# Altium footprint library msp_Passive.PcbLib: 18 footprints (part 1 of 2)
Each footprint in its own frame and in the unit in brackets; x right, y up, seen from the top. Pads: shape width x height; smd on the part's side, far side on the other; paste and mask are expansions set on the pad; w line width, h text height; cw(c..) or ccw(c..) is an arc to the next point about the centre after c.
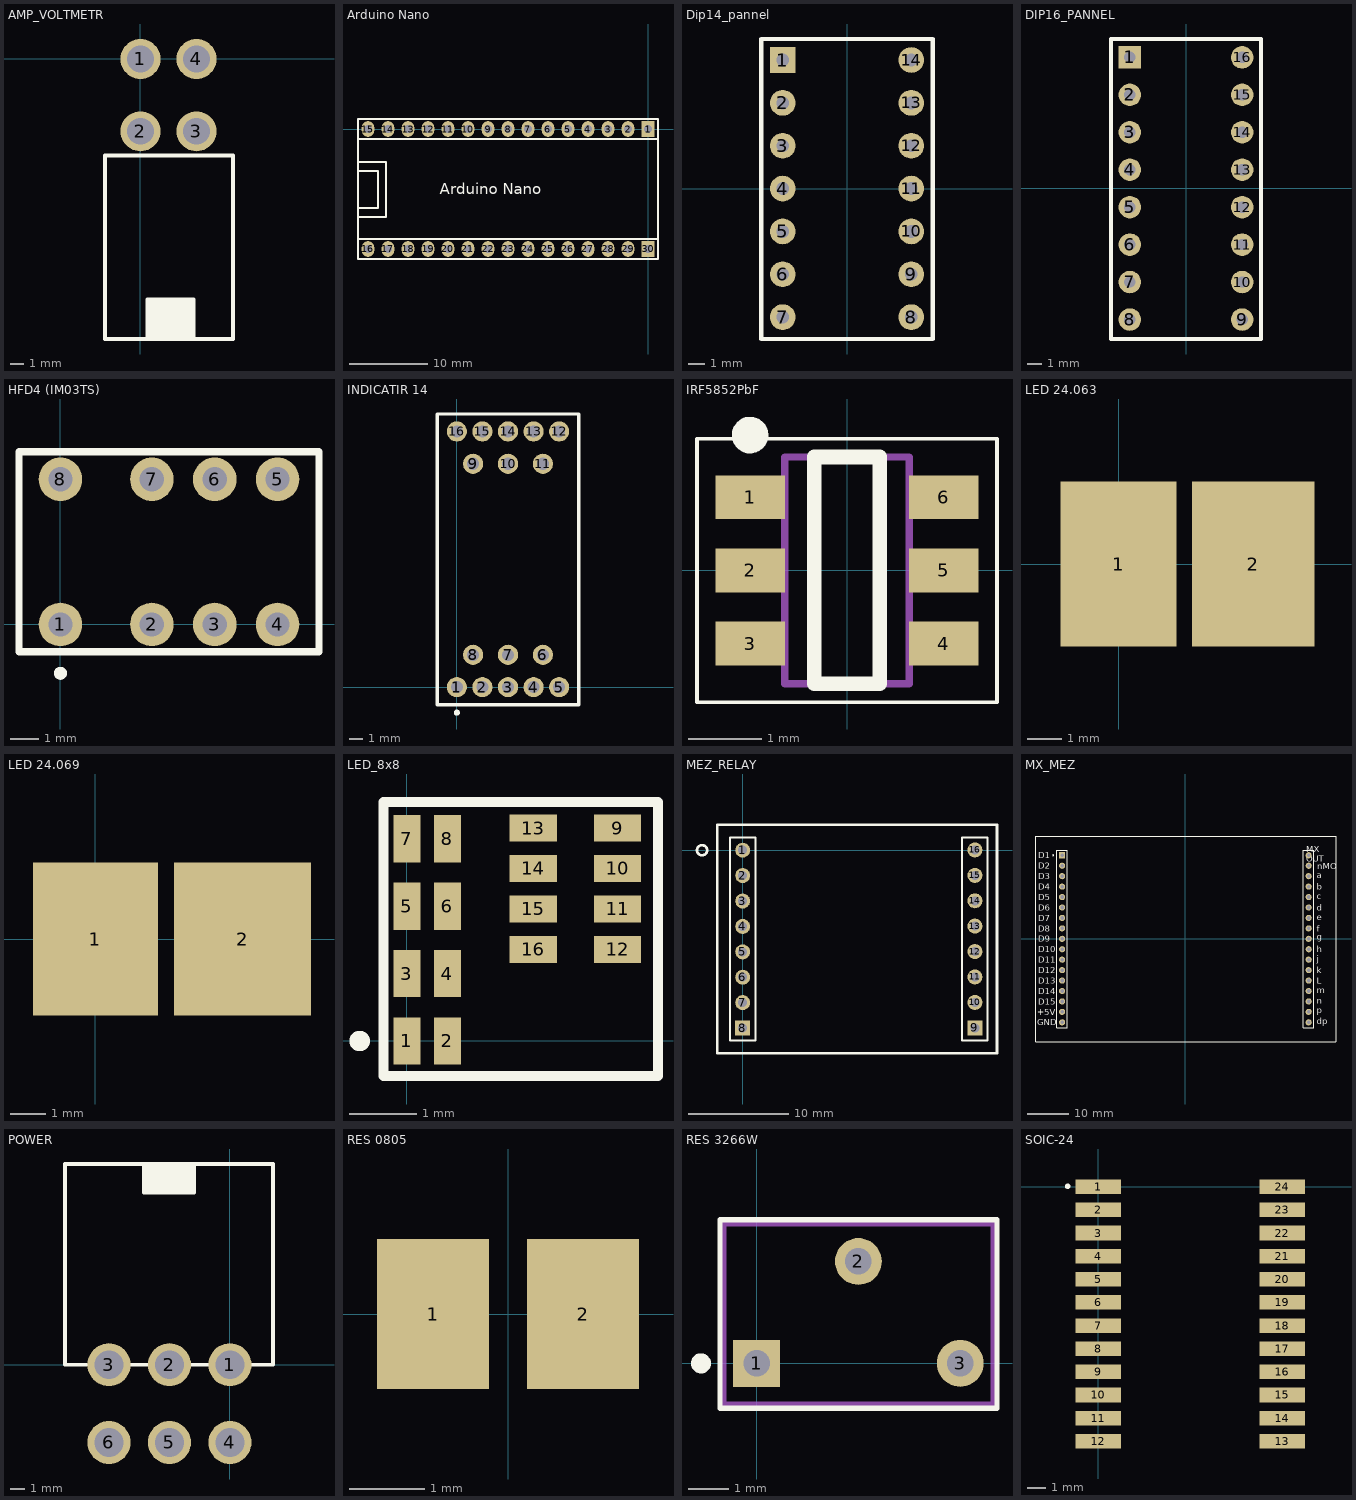
[diagram p0: the footprints below, top view; thin cyan lines are the x and y axes]

## AMP_VOLTMETR [mm]
pads (4):
  round 3 hole 2: 1(0,0) 2(0,-5.423) 3(4.2,-5.423) 4(4.2,0)
Top Overlay:
  rectangle: 0.5,-21 4,-18
  lines w0.254: 0.5,-21 0.5,-18 4,-18 4,-21
  lines w0.3: -2.662,-21 6.938,-21 6.938,-7.25 -2.662,-7.25 -2.662,-21

## Arduino Nano [mm]
pads (30):
  rect 1.6x2 hole 1: 1(0,0) 30(0,-15.24)
  oval 1.6x2 hole 1: 2(-2.54,0) 3(-5.08,0) 4(-7.62,0) 5(-10.16,0) 6(-12.7,0) 7(-15.24,0) 8(-17.78,0) 9(-20.32,0) 10(-22.86,0) 11(-25.4,0) 12(-27.94,0) 13(-30.48,0) 14(-33.02,0) 15(-35.56,0) 16(-35.56,-15.24) 17(-33.02,-15.24) 18(-30.48,-15.24) 19(-27.94,-15.24) 20(-25.4,-15.24) 21(-22.86,-15.24) 22(-20.32,-15.24) 23(-17.78,-15.24) 24(-15.24,-15.24) 25(-12.7,-15.24) 26(-10.16,-15.24) 27(-7.62,-15.24) 28(-5.08,-15.24) 29(-2.54,-15.24)
Top Overlay:
  lines w0.2: -36.83,-13.97 1.27,-13.97 ; -36.83,-11.557 -36.83,-11.43 ; -36.83,-11.176 -33.274,-11.176 -33.274,-4.191 -36.83,-4.191 ; -36.83,-10.033 -34.29,-10.033 -34.29,-5.334 -36.83,-5.334 ; -36.83,-1.27 1.27,-1.27 ; -36.83,-16.51 1.27,-16.51 1.27,1.27 -36.83,1.27 -36.83,-16.51
  text "Arduino Nano" at -26.416,-8.306 h1.4

## Dip14_pannel [mil]
pads (14):
  rect 60x60 hole 30: 1(-150,300)
  round 60 hole 30: 2(-150,200) 3(-150,100) 4(-150,0) 5(-150,-100) 6(-150,-200) 7(-150,-300) 8(150,-300) 9(150,-200) 10(150,-100) 11(150,0) 12(150,100) 13(150,200) 14(150,300)
Top Overlay:
  lines w10: -200,-351 -200,349 200,349 200,-351 -200,-351

## DIP16_PANNEL [mil]
pads (16):
  rect 60x60 hole 30: 1(-150,350)
  round 60 hole 30: 2(-150,250) 3(-150,150) 4(-150,50) 5(-150,-50) 6(-150,-150) 7(-150,-250) 8(-150,-350) 9(150,-350) 10(150,-250) 11(150,-150) 12(150,-50) 13(150,50) 14(150,150) 15(150,250) 16(150,350)
Top Overlay:
  lines w10: -200,-402 200,-402 200,399 -200,399 -200,-402

## HFD4 (IM03TS) [mil]
pads (8):
  round 60 hole 33.46: 1(0,0) 2(125.98,0) 3(212.6,0) 4(299.21,0) 5(299.21,200) 6(212.6,200) 7(125.98,200) 8(0,200)
Top Overlay:
  circle w10: c0,-67.32 r3.94
  lines w10: -57.09,-37.8 356.3,-37.8 356.3,237.8 -57.09,237.8 -57.09,-37.8

## INDICATIR 14 [mm] "24.064"
pads (16):
  round 1.5 hole 0.9: 1(0,0) 2(1.9,0) 3(3.8,0) 4(5.7,0) 5(7.6,0) 6(6.4,2.4) 7(3.8,2.4) 8(1.2,2.4) 9(1.2,16.6) 10(3.8,16.6) 11(6.4,16.6) 12(7.6,19) 13(5.7,19) 14(3.8,19) 15(1.9,19) 16(0,19)
Top Overlay:
  circle w0.254: c0,-1.9 r0.1
  lines w0.254: -1.45,-1.3 -1.45,20.3 9.05,20.3 9.05,-1.3 -1.45,-1.3

## IRF5852PbF [mm] "TSOP, 6-Leads, Body 3,00x1,50mm, Pitch 1,00mm, IPC Medium Density"
height 1.1
pads (6):
  rect 0.95x0.6 smd: 1(-1.325,1) 2(-1.325,0) 3(-1.325,-1) 4(1.325,-1) 5(1.325,0) 6(1.325,1)
Top Overlay:
  circle w0.25: c-1.325,1.85 r0.125
  lines w0.05: -2.05,-1.8 2.05,-1.8 2.05,1.8 -2.05,1.8 -2.05,-1.8
  lines w0.2: -0.45,-1.55 0.45,-1.55 0.45,1.55 -0.45,1.55 -0.45,-1.55
Mechanical 13:
  lines w0.1: -0.85,-1.55 0.85,-1.55 0.85,1.55 -0.85,1.55 -0.85,-1.55
3D body: height 1.1, standoff 0.01, extent -0.85,-1.55 0.85,1.55

## LED 24.063 [mm]
pads (2):
  rect 3.4x4.85 smd: 1(0,0)
  rect 3.6x4.85 smd: 2(3.962,0)

## LED 24.069 [mm]
pads (2):
  rect 3.55x4.36 smd: 1(0,0)
  rect 3.9x4.36 smd: 2(4.191,0)

## LED_8x8 [mm] "24.067"
pads (16):
  rect 0.4x0.7 smd: 1(0,0) 2(0.6,0) 3(0,1) 4(0.6,1) 5(0,2) 6(0.6,2) 7(0,3) 8(0.6,3)
  rect 0.7x0.4 smd: 9(3.125,3.159) 10(3.125,2.559) 11(3.125,1.959) 12(3.125,1.359) 13(1.875,3.159) 14(1.875,2.559) 15(1.875,1.959) 16(1.875,1.359)
Top Overlay:
  circle w0.254: c-0.7,0 r0.025
  lines w0.15: -0.345,-0.522 3.725,-0.522 3.725,3.548 -0.345,3.548 -0.345,-0.522

## MEZ_RELAY [mm] "мезонин реле"
height 14.986
pads (16):
  round 1.5 hole 0.9: 1(0,0) 2(0,-2.54) 3(0,-5.08) 4(0,-7.62) 5(0,-10.16) 6(0,-12.7) 7(0,-15.24) 10(23.216,-15.215) 11(23.216,-12.675) 12(23.216,-10.135) 13(23.216,-7.595) 14(23.216,-5.055) 15(23.216,-2.515) 16(23.216,0.025)
  rect 1.5x1.5 hole 0.9: 8(0,-17.78) 9(23.216,-17.755)
Top Overlay:
  circle w0.254: c-4.064,0 r0.508
  lines w0.2: -1.27,-19.05 1.27,-19.05 1.27,1.27 -1.27,1.27 -1.27,-19.05 ; 21.946,-19.025 21.946,1.295 24.486,1.295 24.486,-19.025 21.946,-19.025
  lines w0.254: -2.54,2.54 -2.54,-20.32 25.425,-20.32 25.425,2.565 -2.515,2.565

## MX_MEZ [mm]
pads (34):
  rect 1.5x1.5 hole 0.9: 1(-30,20.32)
  round 1.5 hole 0.9: 2(-30,17.78) 3(-30,15.24) 4(-30,12.7) 5(-30,10.16) 6(-30,7.62) 7(-30,5.08) 8(-30,2.54) 9(-30,0) 10(-30,-2.54) 11(-30,-5.08) 12(-30,-7.62) 13(-30,-10.16) 14(-30,-12.7) 15(-30,-15.24) 16(-30,-17.78) 17(-30,-20.32) 18(30,-20.32) 19(30,-17.78) 20(30,-15.24) 21(30,-12.7) 22(30,-10.16) 23(30,-7.62) 24(30,-5.08) 25(30,-2.54) 26(30,0) 27(30,2.54) 28(30,5.08) 29(30,7.62) 30(30,10.16) 31(30,12.7) 32(30,15.24) 33(30,17.78) 34(30,20.32)
Top Overlay:
  circle w0.3: c-32.187,20.344 r0.1
  lines w0.2: -31.27,-21.59 -28.73,-21.59 -28.73,21.59 -31.27,21.59 -31.27,-19.685 -31.27,-21.59 ; 28.73,-21.59 31.27,-21.59 31.27,21.59 28.73,21.59 28.73,-19.685 28.73,-21.59
  lines w0.254: -36.353,-25.046 36.647,-25.046 36.647,24.954 -36.353,24.954 -36.353,-25.046
  text "MX / OUT" at 29.452,18.72 h1.52
  text "nMO" at 32.026,16.933 h1.52
  text "D15" at -35.797,-16.002 h1.52
  text "D14" at -35.797,-13.462 h1.52
  text "D13" at -35.797,-10.922 h1.52
  text "D12" at -35.797,-8.382 h1.52
  text "D10" at -35.797,-3.302 h1.52
  text "D11" at -35.797,-5.842 h1.52
  text "D9" at -35.797,-0.762 h1.52
  text "D8" at -35.797,1.778 h1.52
  text "D7" at -35.797,4.318 h1.52
  text "D6" at -35.797,6.858 h1.52
  text "D5" at -35.797,9.398 h1.52
  text "D4" at -35.797,11.938 h1.52
  text "D3" at -35.797,14.478 h1.52
  text "D2" at -35.797,17.018 h1.52
  text "D1" at -35.797,19.558 h1.52
  text "a" at 32.022,14.712 h1.52
  text "GND" at -36.053,-21.082 h1.52
  text "+5V" at -36.053,-18.542 h1.52
  text "dp" at 32.022,-20.848 h1.52
  text "p" at 32.022,-18.054 h1.52
  text "n" at 32.022,-15.768 h1.52
  text "m" at 32.022,-13.228 h1.52
  text "L" at 32.022,-10.942 h1.52
  text "k" at 32.022,-8.402 h1.52
  text "j" at 32.022,-5.608 h1.52
  text "h" at 32.022,-3.322 h1.52
  text "g" at 32.022,-0.274 h1.52
  text "f" at 32.022,1.758 h1.52
  text "e" at 32.022,4.552 h1.52
  text "d" at 32.022,6.838 h1.52
  text "c" at 32.022,9.632 h1.52
  text "b" at 32.022,11.918 h1.52

## POWER [mm]
pads (6):
  round 3 hole 2: 1(0,0) 2(-4.217,0) 3(-8.435,0) 4(0,-5.422) 5(-4.217,-5.422) 6(-8.435,-5.422)
Top Overlay:
  rectangle: -6,12 -2.5,14
  lines w0.254: -10,0 -11.5,0 -11.5,14 3,14 3,0 1.5,0 ; -7,0 -5.5,0 ; -6,14 -6,12 -2.5,12 -2.5,14 ; -3,0 -1.5,0

## RES 0805 [mm]
pads (2):
  rect 1.5x2 smd: 1(-1,0) 2(1,0)

## RES 3266W [mm]
pads (3):
  rect 1.168x1.168 hole 0.66: 1(0,0)
  round 1.168 hole 0.66: 2(2.54,2.54) 3(5.08,0)
Top Overlay:
  circle w0.3: c-1.385,0 r0.1
  lines w0.127: -0.915,-1.12 -0.915,3.58 5.995,3.58 5.995,-1.12 -0.915,-1.12
Mechanical 13:
  lines w0.127: -0.815,-1.02 -0.815,3.48 5.895,3.48 5.895,-1.02 -0.815,-1.02

## SOIC-24 [mm]
pads (24):
  rect 2.5x0.8 smd: 1(0,0) 2(0,-1.27) 3(0,-2.54) 4(0,-3.81) 5(0,-5.08) 6(0,-6.35) 7(0,-7.62) 8(0,-8.89) 9(0,-10.16) 10(0,-11.43) 11(0,-12.7) 12(0,-13.97) 13(10.1,-13.97) 14(10.1,-12.7) 15(10.1,-11.43) 16(10.1,-10.16) 17(10.1,-8.89) 18(10.1,-7.62) 19(10.1,-6.35) 20(10.1,-5.08) 21(10.1,-3.81) 22(10.1,-2.54) 23(10.1,-1.27) 24(10.1,0)
Top Overlay:
  circle w0.254: c-1.675,0.025 r0.025